# Altium footprint library SX1262_e428v03a.PcbLib: 56 footprints (part 2 of 4)
Each footprint in its own frame and in the unit in brackets; x right, y up, seen from the top. Pads: shape width x height; smd on the part's side, far side on the other; paste and mask are expansions set on the pad; w line width, h text height; cw(c..) or ccw(c..) is an arc to the next point about the centre after c.
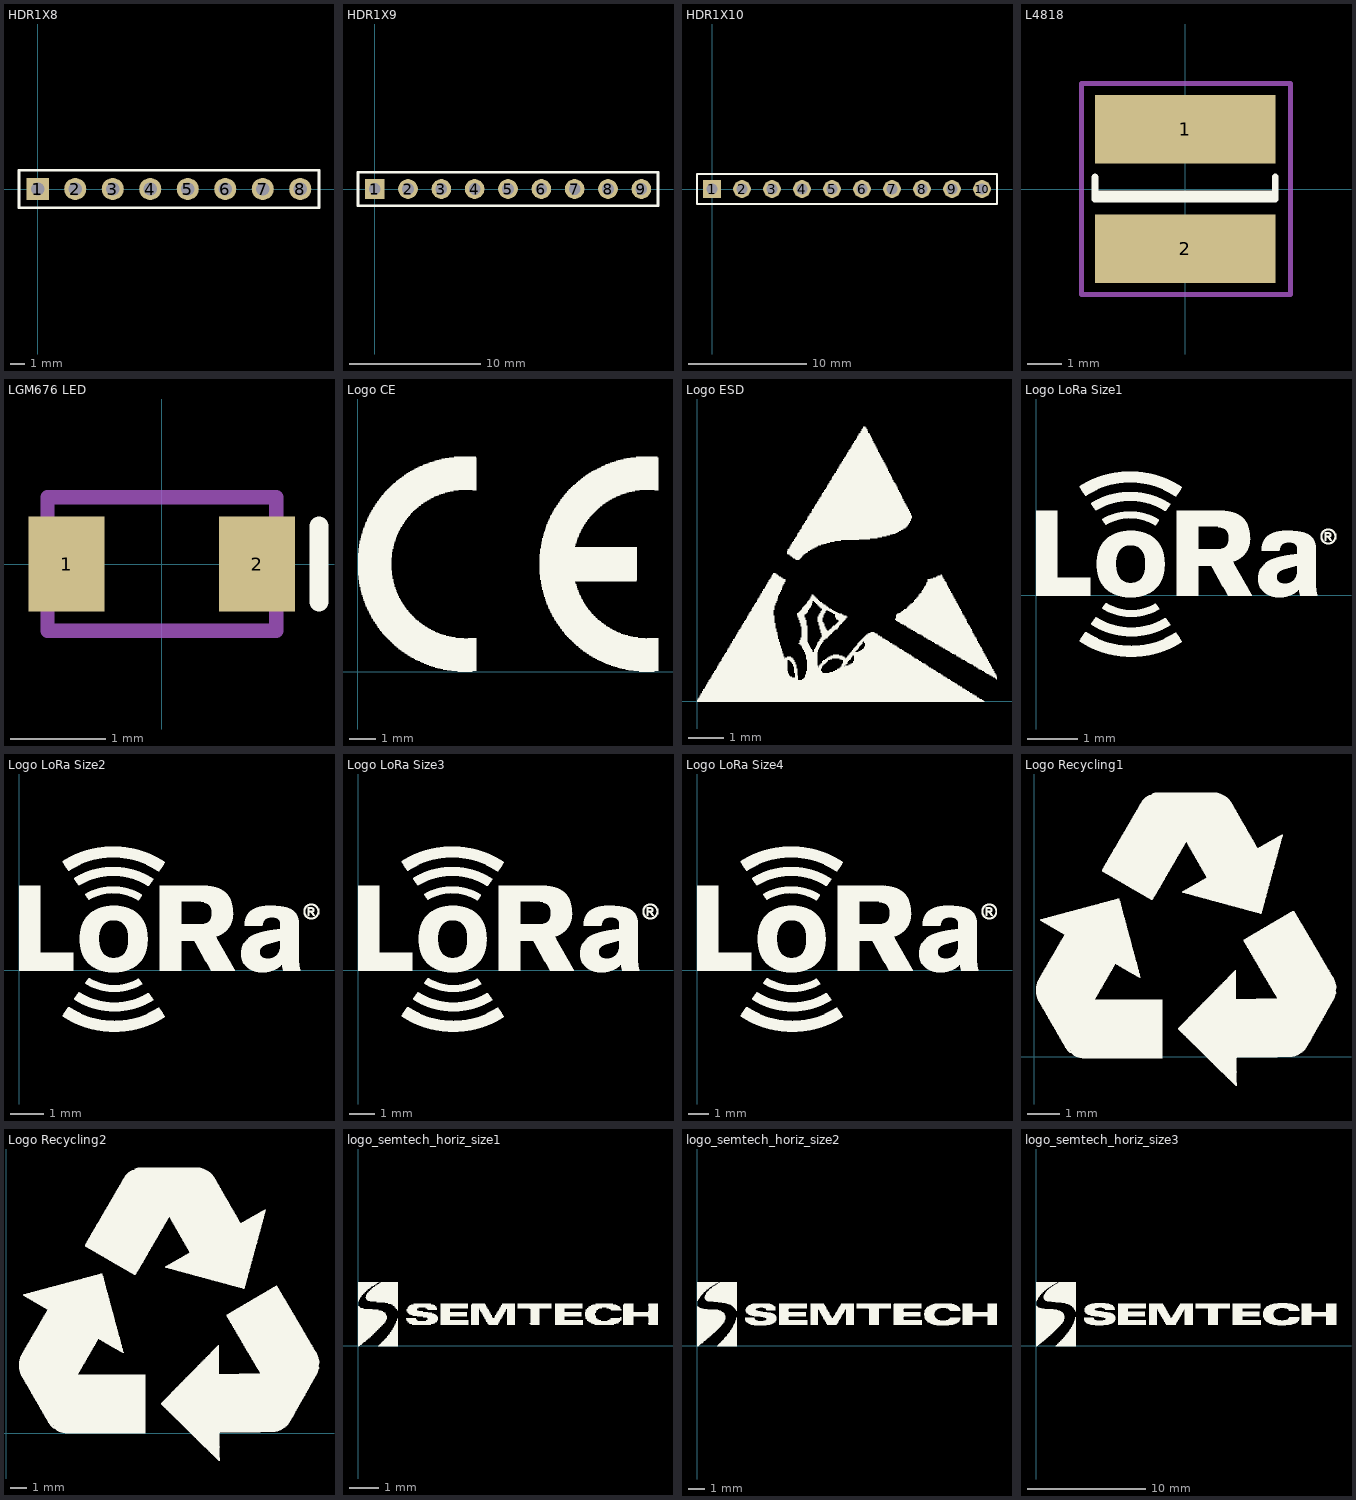
[diagram p1: the footprints below, top view; thin cyan lines are the x and y axes]

## HDR1X8 [mm] "Connector; Header; 8 Position"
pads (8):
  rect 1.5x1.5 hole 0.9: 1(0,0)
  round 1.5 hole 0.9: 2(2.54,0) 3(5.08,0) 4(7.62,0) 5(10.16,0) 6(12.7,0) 7(15.24,0) 8(17.78,0)
Top Overlay:
  lines w0.2: -1.27,-1.27 19.05,-1.27 19.05,1.27 -1.27,1.27 -1.27,-1.27

## HDR1X9 [mm] "Connector; Header; 9 Position"
pads (9):
  rect 1.5x1.5 hole 0.9: 1(0,0)
  round 1.5 hole 0.9: 2(2.54,0) 3(5.08,0) 4(7.62,0) 5(10.16,0) 6(12.7,0) 7(15.24,0) 8(17.78,0) 9(20.32,0)
Top Overlay:
  lines w0.2: -1.27,-1.27 21.59,-1.27 21.59,1.27 -1.27,1.27 -1.27,-1.27

## HDR1X10 [mm] "Connector; Header; 10 Position"
pads (10):
  rect 1.5x1.5 hole 0.9: 1(0,0)
  round 1.5 hole 0.9: 2(2.54,0) 3(5.08,0) 4(7.62,0) 5(10.16,0) 6(12.7,0) 7(15.24,0) 8(17.78,0) 9(20.32,0) 10(22.86,0)
Top Overlay:
  lines w0.2: -1.27,-1.27 -1.27,1.27 0.635,1.27 24.13,1.27 24.13,-1.27 -1.27,-1.27

## L4818 [mil] "L4818"
height 196.85
pads (2):
  rect 209x79 smd mask+1.97: 1(0,69.03) 2(0,-69.03)
Top Overlay:
  lines w7.87: -104.33,-0.98 -104.33,-5.91 104.33,-5.91 ; -104.33,13.78 -104.33,-11.81 104.33,-11.81 104.33,13.78
Mechanical 15:
  lines w5.91: -120.08,-122.05 122.05,-122.05
  lines w6: -120.08,-122.05 -120.08,122.05 122.05,122.05 122.05,-122.05

## LGM676 LED [mm] "Chip Diode; Body 2.1 x 1.4 mm (LxW typ)"
height 1.1
pads (2):
  rect 0.8x1 smd mask+0.05: 1(-1,0) 2(1,0)
Top Overlay:
  lines w0.2: 1.65,-0.4 1.65,0.4
Mechanical 15:
  lines w0.15: -1.2,-0.7 1.2,-0.7 1.2,0.7 -1.2,0.7 -1.2,-0.7
3D body: height 12, standoff 0, extent -1.2,-0.7 1.2,0.7

## Logo CE [mm] "Logo CE"
height 0.1
Top Overlay:
  drawing of 654 lines, arcs and shapes, not listed

## Logo ESD [mm] "Logo ESD"
height 0.1
Top Overlay:
  drawing of 682 lines, arcs and shapes, not listed

## Logo LoRa Size1 [mm] "Logo LoRa Size1 - Top Overlay - 6x4mm - Registered"
Top Overlay:
  drawing of 1298 lines, arcs and shapes, not listed

## Logo LoRa Size2 [mm] "Logo LoRa Size2 - Top Overlay - 9x5.5mm - Registered"
Top Overlay:
  drawing of 1298 lines, arcs and shapes, not listed

## Logo LoRa Size3 [mm] "Logo LoRa Size3 - Top Overlay - 14.5x8mm - Registered"
Top Overlay:
  drawing of 1298 lines, arcs and shapes, not listed

## Logo LoRa Size4 [mm] "Logo LoRa Size4 - Top Overlay - 18x9.5mm - Registered"
Top Overlay:
  drawing of 1298 lines, arcs and shapes, not listed

## Logo Recycling1 [mm] "Logo Recycling1"
height 0.1
Top Overlay:
  drawing of 3302 lines, arcs and shapes, not listed

## Logo Recycling2 [mm] "Logo Recycling2"
height 0.1
Top Overlay:
  drawing of 3309 lines, arcs and shapes, not listed

## logo_semtech_horiz_size1 [mm] "Logo semtech horizontal - size1 - S"
Top Overlay:
  drawing of 453 lines, arcs and shapes, not listed

## logo_semtech_horiz_size2 [mm] "Logo semtech horizontal - size2 - M"
Top Overlay:
  drawing of 790 lines, arcs and shapes, not listed

## logo_semtech_horiz_size3 [mm] "Logo semtech horizontal - size3 - L"
Top Overlay:
  drawing of 1137 lines, arcs and shapes, not listed